# Altium schematic symbol library SCH - OPAMP - ANALOG DEV ADA4891-1ARZ R-8.SCHLIB: 1 symbol
Pins are listed as number, name and electrical type; pins without a type are passive.

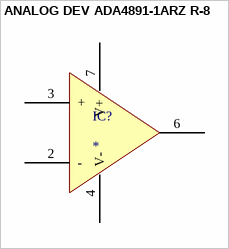
[diagram p0: symbol ANALOG DEV ADA4891-1ARZ R-8]

## ANALOG DEV ADA4891-1ARZ R-8
designator IC?
pins: 2 -, 3 +, 4 V-, 6 OUT, 7 V+